# EAGLE library part NTS0104GU12,115 (library NTS0104GU12_115)
Translation - Voltage Levels 5.8ns 5.5V 250mW OD Source: Datasheet <https://www.nxp.com/docs/en/data-sheet/NTS0104.pdf>
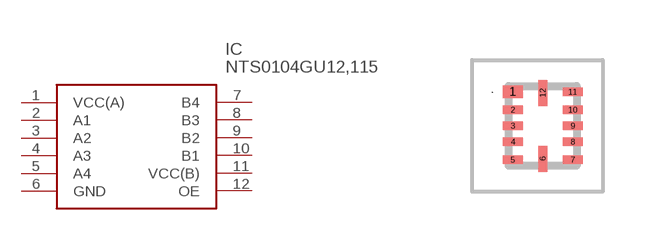
[diagram p0: symbol with the pads of NTS0104GU12115; footprint NTS0104GU12115]

Designator prefix IC

## NTS0104GU12,115 (Arrow_Part_Number: NTS0104GU12,115; Arrow_Price-Stock: https://www.arrow.com/en/products/nts0104gu12115/nxp-semiconductors?utm_currency=USD&region=europe; Description: Translation - Voltage Levels 5.8ns 5.5V 250mW OD; Height: mm; Manufacturer_Name: NXP; Manufacturer_Part_Number: NTS0104GU12,115; Mouser_Part_Number: 771-NTS0104GU12115; Mouser_Price-Stock: https://www.mouser.co.uk/ProductDetail/NXP-Semiconductors/NTS0104GU12115?qs=A1cBxND5mHLxKBBpk2Em8w%3D%3D)  [NTS0104GU12115]
1  VCC(A)
2  A1
3  A2
4  A3
5  A4
6  GND
7  B4
8  B3
9  B2
10  B1
11  VCC(B)
12  OE

## Footprint NTS0104GU12115 (pad centres in mm)
SOT1174-1 (XQFN12)-1
smd 0.5 x 0.32: 1 -0.75,0.85
smd 0.5 x 0.22: 2 -0.75,0.4; 3 -0.75,0; 4 -0.75,-0.4; 5 -0.75,-0.85; 7 0.75,-0.85; 8 0.75,-0.4; 9 0.75,0; 10 0.75,0.4; 11 0.75,0.85
smd 0.22 x 0.65: 6 0,-0.825; 12 0,0.825